# Altium schematic symbol library Discrete_Photoelectric_Optocouplers_GOST.SchLib: 1 symbol
Pins are listed as number, name and electrical type; pins without a type are passive.

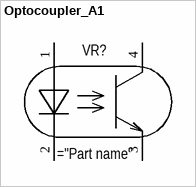
[diagram p0: symbol Optocoupler_A1]

## Optocoupler_A1
designator VR?
pins: 1 "Anode", 2 "Cathode", 3 "Cathode", 4 "Cathode"